# Altium footprint library 野火_F429_V2核心板_PCB封装库_AD格式.PcbLib: 20 footprints (part 2 of 2)
Each footprint in its own frame and in the unit in brackets; x right, y up, seen from the top. Pads: shape width x height; smd on the part's side, far side on the other; paste and mask are expansions set on the pad; w line width, h text height; cw(c..) or ccw(c..) is an arc to the next point about the centre after c.
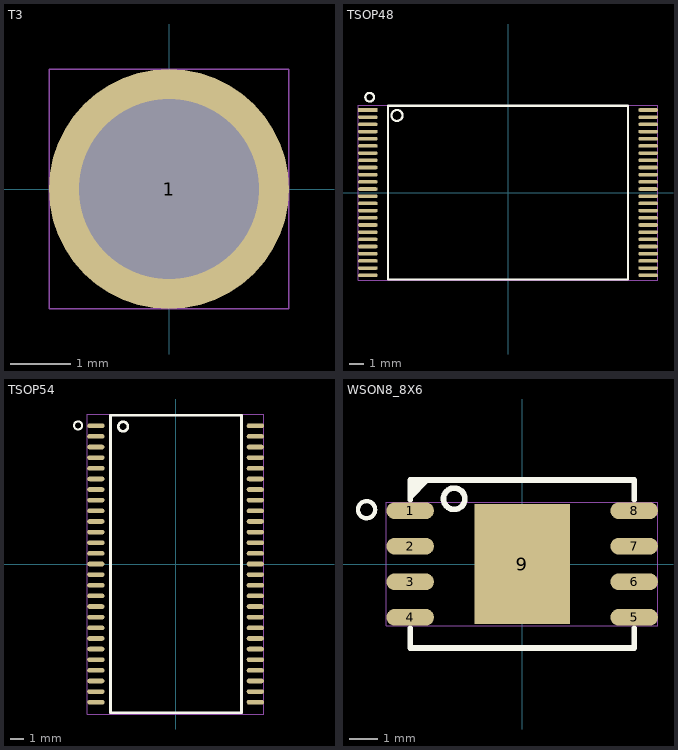
[diagram p1: the footprints below, top view; thin cyan lines are the x and y axes]

## T3 [mil]
pads (1):
  round 157.5 hole 118.1 mask+1.95: 1(0,0)
Top Solder:
  lines w1: -98.4,-98.4 98.4,-98.4 98.4,98.4 -98.4,98.4 -98.4,-98.4
Bottom Solder:
  lines w1: -98.4,-98.4 -98.4,98.4 98.4,98.4 98.4,-98.4 -98.4,-98.4
Top Assembly:
  text "H4" at 41.47,25.04 h50
Mechanical 18:
  lines w1: -78.7,-78.7 78.7,-78.7 78.7,78.7 -78.7,78.7 -78.7,-78.7

## TSOP48 [mil]
pads (48):
  rect 54x10 smd mask+2: 1(-383.9,226.4)
  oval 54x10 smd mask+2: 2(-383.9,206.7) 3(-383.9,187) 4(-383.9,167.3) 5(-383.9,147.6) 6(-383.9,128) 7(-383.9,108.3) 8(-383.9,88.6) 9(-383.9,68.9) 10(-383.9,49.2) 11(-383.9,29.5) 12(-383.9,9.8) 13(-383.9,-9.8) 14(-383.9,-29.5) 15(-383.9,-49.2) 16(-383.9,-68.9) 17(-383.9,-88.6) 18(-383.9,-108.3) 19(-383.9,-128) 20(-383.9,-147.6) 21(-383.9,-167.3) 22(-383.9,-187) 23(-383.9,-206.7) 24(-383.9,-226.4) 25(383.9,-226.4) 26(383.9,-206.7) 27(383.9,-187) 28(383.9,-167.3) 29(383.9,-147.6) 30(383.9,-128) 31(383.9,-108.3) 32(383.9,-88.6) 33(383.9,-68.9) 34(383.9,-49.2) 35(383.9,-29.5) 36(383.9,-9.8) 37(383.9,9.8) 38(383.9,29.5) 39(383.9,49.2) 40(383.9,68.9) 41(383.9,88.6) 42(383.9,108.3) 43(383.9,128) 44(383.9,147.6) 45(383.9,167.3) 46(383.9,187) 47(383.9,206.7) 48(383.9,226.4)
Top Overlay:
  circle w6: c-378.86,261.38 r12.02
  circle w6: c-303.86,211.38 r14.96
  lines w6: -328.5,-238.2 328.7,-238.2 328.7,238.2 -328.5,238.2 -328.5,-238.2
Top Assembly:
  text "U17" at 58.61,25.04 h50
Mechanical 18:
  lines w1: -410,-240 -410,240 410,240 410,-240 -410,-240

## TSOP54 [mil]
pads (54):
  oval 51.2x13.8 smd mask+1.95: 1(-236.2,409.4) 2(-236.2,378) 3(-236.2,346.5) 4(-236.2,315) 5(-236.2,283.5) 6(-236.2,252) 7(-236.2,220.5) 8(-236.2,189) 9(-236.2,157.5) 10(-236.2,126) 11(-236.2,94.5) 12(-236.2,63) 13(-236.2,31.5) 14(-236.2,0) 15(-236.2,-31.5) 16(-236.2,-63) 17(-236.2,-94.5) 18(-236.2,-126) 19(-236.2,-157.5) 20(-236.2,-189) 21(-236.2,-220.5) 22(-236.2,-252) 23(-236.2,-283.5) 24(-236.2,-315) 25(-236.2,-346.5) 26(-236.2,-378) 27(-236.2,-409.4) 28(236.2,-409.4) 29(236.2,-378) 30(236.2,-346.5) 31(236.2,-315) 32(236.2,-283.5) 33(236.2,-252) 34(236.2,-220.5) 35(236.2,-189) 36(236.2,-157.5) 37(236.2,-126) 38(236.2,-94.5) 39(236.2,-63) 40(236.2,-31.5) 41(236.2,0) 42(236.2,31.5) 43(236.2,63) 44(236.2,94.5) 45(236.2,126) 46(236.2,157.5) 47(236.2,189) 48(236.2,220.5) 49(236.2,252) 50(236.2,283.5) 51(236.2,315) 52(236.2,346.5) 53(236.2,378) 54(236.2,409.4)
Top Overlay:
  circle w6: c-288.86,410.38 r12.06
  circle w7.9: c-155.51,407.09 r14.21
  lines w7.9: -192.9,-440.9 -192.9,440.9 ; -192.9,-440.9 195.3,-440.9 ; -192.9,-440.9 -192.9,440.9 ; -192.9,-440.9 195.3,-440.9 ; -192.9,440.9 195.3,440.9 ; -192.9,440.9 195.3,440.9 ; 195.3,-440.9 195.3,440.9 ; 195.3,-440.9 195.3,440.9
Top Assembly:
  text "U4" at -41.47,-25.04 h50
Mechanical 18:
  lines w1: -261.8,-444.3 -261.8,444.3 261.8,444.3 261.8,-444.3 -261.8,-444.3

## WSON8_8X6 [mil]
pads (9):
  oval 66.9x23.6 smd mask+2: 1(-157.5,75) 2(-157.5,25) 3(-157.5,-25) 4(-157.5,-75) 5(157.5,-75) 6(157.5,-25) 7(157.5,25) 8(157.5,75)
  rect 133.9x169.3 smd mask+1.95: 9(0,0)
Top Overlay:
  circle w6: c-218.86,76.38 r12.06
  circle w8: c-95.67,91.74 r14.97
  lines w7.9: -157.5,-90.6 -157.5,-118.1 157.5,-118.1 157.5,-90.6 ; -157.5,90.6 -157.5,118.1 157.5,118.1 157.5,90.6 ; -157.5,94.5 -133.9,118.1 ; -157.5,102.4 -141.7,118.1 ; -157.5,110.2 -149.6,118.1
Top Paste:
  lines w1: -51.2,-51.2 -51.2,-7.9 -11.8,-7.9 -11.8,-51.2 -51.2,-51.2 ; -51.2,7.9 -51.2,51.2 -11.8,51.2 -11.8,7.9 -51.2,7.9 ; 11.8,-51.2 11.8,-7.9 51.2,-7.9 51.2,-51.2 11.8,-51.2 ; 11.8,7.9 11.8,51.2 51.2,51.2 51.2,7.9 11.8,7.9
Top Assembly:
  text "U7" at 40.28,25.04 h50
Mechanical 18:
  lines w1: -190.9,-86.8 190.9,-86.8 190.9,86.8 -190.9,86.8 -190.9,-86.8